# Altium footprint library CSD16406Q3.PcbLib: 2 footprints
Each footprint in its own frame and in the unit in brackets; x right, y up, seen from the top. Pads: shape width x height; smd on the part's side, far side on the other; paste and mask are expansions set on the pad; w line width, h text height; cw(c..) or ccw(c..) is an arc to the next point about the centre after c.
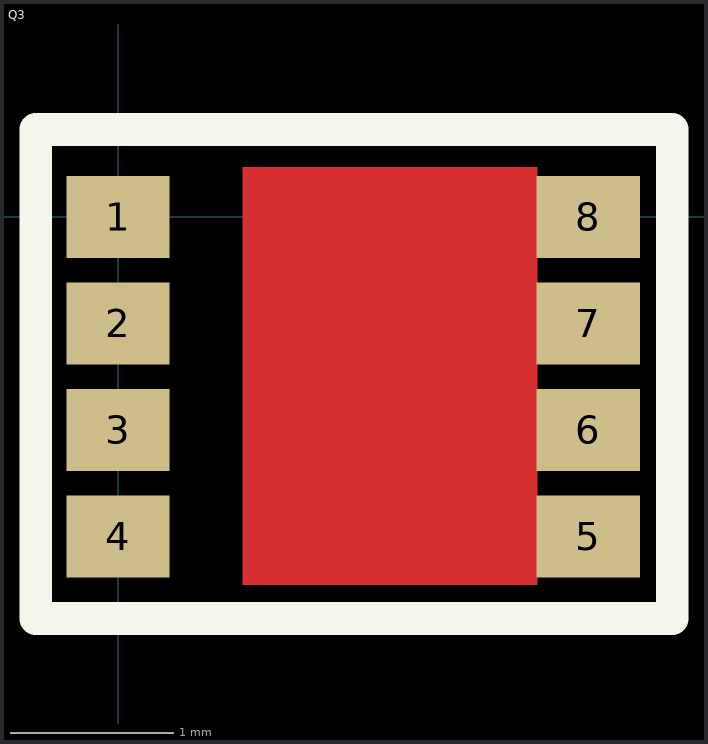
[diagram p0: the footprints below, top view; thin cyan lines are the x and y axes]

## PCBComponent_1 [mm]

## Q3 [mm]
pads (8):
  rect 0.63x0.5 smd: 1(0,0) 2(0,-0.65) 3(0,-1.3) 4(0,-1.95) 5(2.87,-1.95) 6(2.87,-1.3) 7(2.87,-0.65) 8(2.87,0)
Top Layer:
  rectangle: 0.76,-2.246 2.56,0.304
Top Overlay:
  lines w0.2: -0.502,-2.451 -0.502,0.533 3.383,0.533 3.383,-2.451 -0.502,-2.451